# Altium footprint library Footprints.PcbLib: 13 footprints
Each footprint in its own frame and in the unit in brackets; x right, y up, seen from the top. Pads: shape width x height; smd on the part's side, far side on the other; paste and mask are expansions set on the pad; w line width, h text height; cw(c..) or ccw(c..) is an arc to the next point about the centre after c.
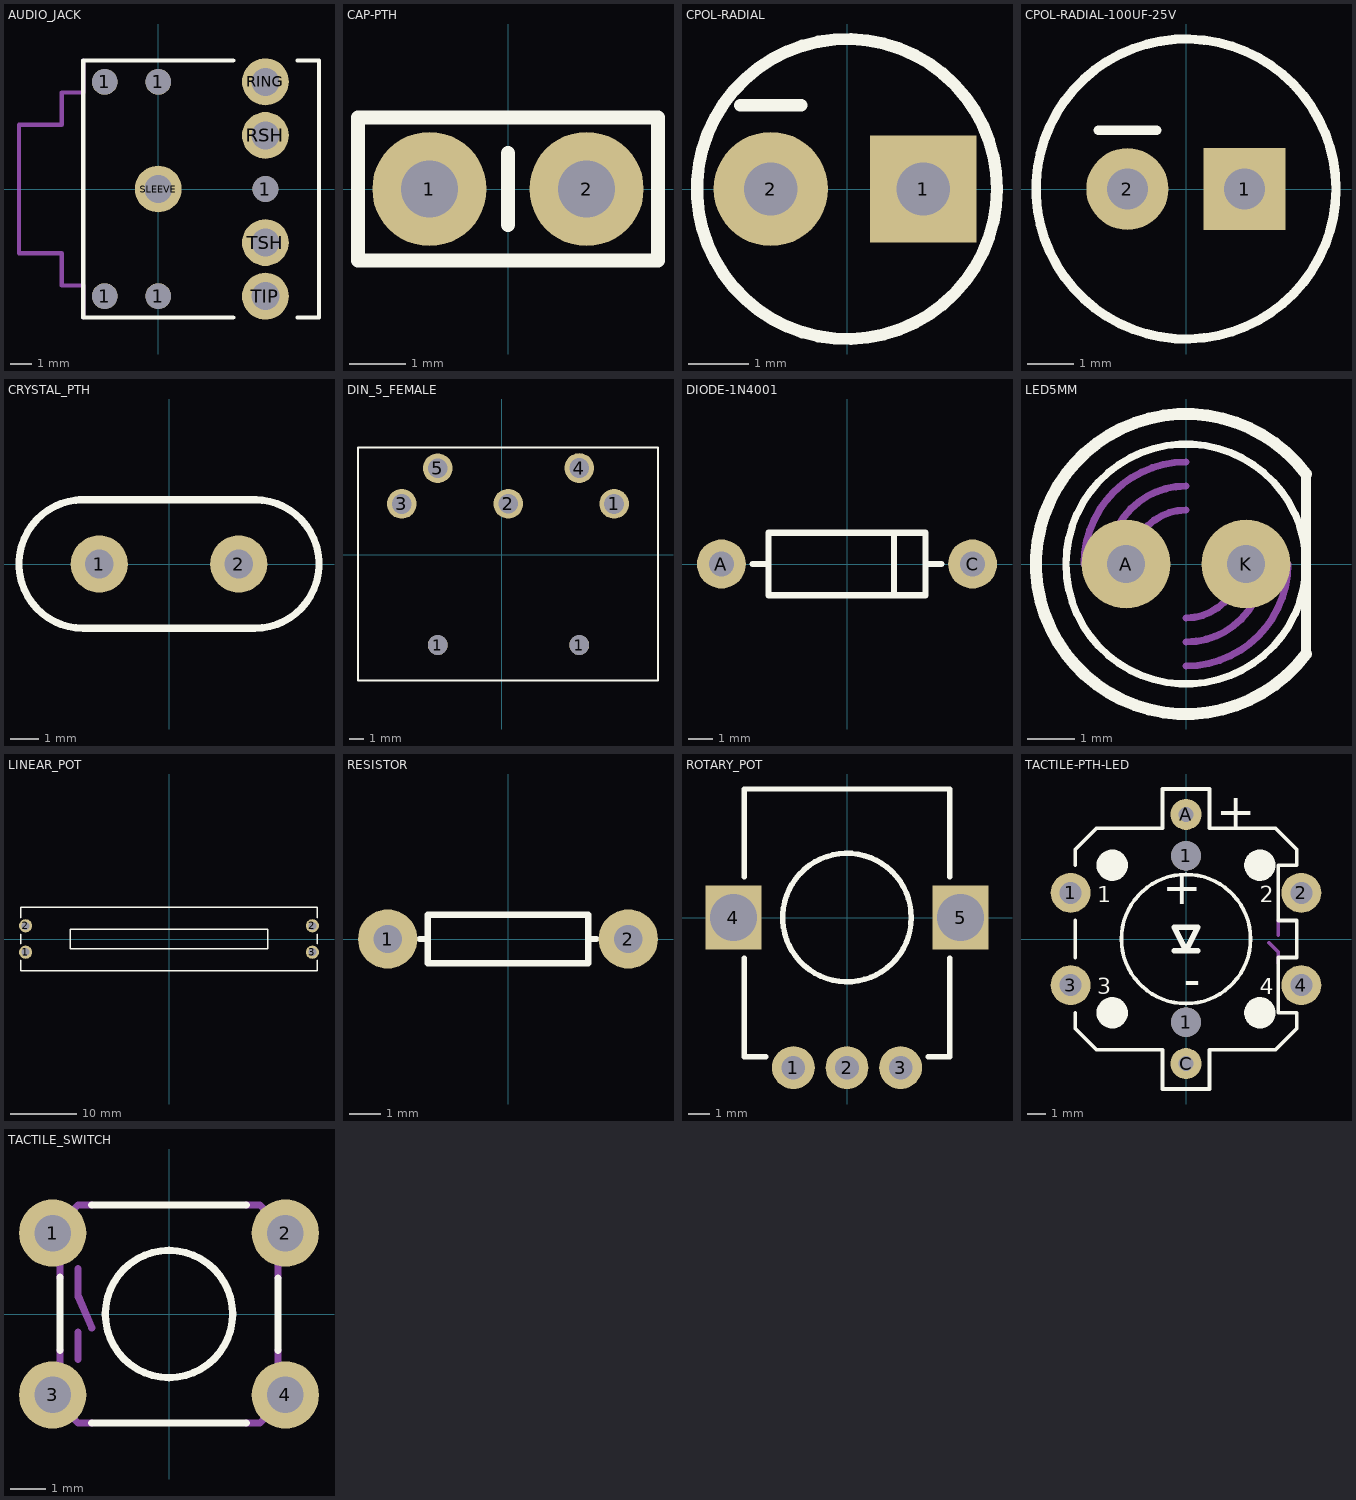
[diagram p0: the footprints below, top view; thin cyan lines are the x and y axes]

## AUDIO_JACK [mm]
pads (10):
  round 1.2 hole 1.2: 1(-2.5,-5) 1(-2.5,5) 1(0,-5) 1(0,5) 1(5,0)
  round 2.184 hole 1.3: RING(5,5) RSH(5,2.5) SLEEVE(0,0) TIP(5,-5) TSH(5,-2.5)
Top Overlay:
  lines w0.203: 3.5,-6 -3.5,-6 -3.5,6 3.5,6 ; 6.5,-6 7.5,-6 7.5,6 6.5,6
Mechanical 16:
  lines w0.203: -3.5,-6 -3.5,-4.5 -4.5,-4.5 -4.5,-3 -6.5,-3 -6.5,3 -4.5,3 -4.5,4.5 -3.5,4.5 -3.5,6
3D body "sj1-3525n.stp": height 5.5, standoff -3.3, extent -6.5,-6 7.5,6

## CAP-PTH [mil]
pads (2):
  round 80 hole 40: 1(-55,0) 2(55,0)
Top Overlay:
  lines w10: 0,-25 0,25 ; -105,-50 -105,50 105,50 105,-50 -105,-50
Top Solder:
  region: 54.9,-17.3 51.5,-17.38 45.15,-14.92 40.23,-10.23 37.48,-4 37.4,-0.6 37.31,2.97 39.88,9.64 44.8,14.81 51.33,17.71 54.9,17.8 58.42,17.74 64.88,14.94 69.78,9.87 72.36,3.32 72.3,-0.2 72.27,-3.63 69.59,-9.95 64.69,-14.76 58.33,-17.33
  region: -55.3,-17.3 -58.7,-17.38 -65.05,-14.92 -69.97,-10.23 -72.72,-4 -72.8,-0.6 -72.89,2.97 -70.32,9.64 -65.4,14.81 -58.87,17.71 -55.3,17.8 -51.78,17.74 -45.32,14.94 -40.42,9.87 -37.84,3.32 -37.9,-0.2 -37.93,-3.63 -40.61,-9.95 -45.51,-14.76 -51.87,-17.33
Bottom Solder:
  region: 55,-37.3 51.35,-37.35 44.16,-36.02 37.37,-33.31 31.24,-29.33 26.01,-24.24 21.87,-18.21 18.98,-11.5 17.46,-4.35 17.41,-0.7 17.36,3.04 18.73,10.39 21.51,17.33 25.59,23.59 30.81,28.94 36.98,33.17 43.85,36.11 51.16,37.66 54.9,37.7 58.64,37.65 65.95,36.08 72.81,33.12 78.97,28.88 84.18,23.51 88.24,17.24 91,10.29 92.35,2.94 92.3,-0.8 92.26,-4.43 90.77,-11.55 87.91,-18.23 83.81,-24.24 78.61,-29.32 72.53,-33.29 65.78,-36 58.63,-37.34
  region: -55.2,-37.3 -58.85,-37.35 -66.04,-36.02 -72.83,-33.31 -78.96,-29.34 -84.2,-24.24 -88.34,-18.22 -91.23,-11.5 -92.75,-4.35 -92.8,-0.7 -92.84,3.04 -91.47,10.39 -88.7,17.33 -84.62,23.59 -79.39,28.94 -73.23,33.17 -66.35,36.11 -59.04,37.66 -55.3,37.7 -51.56,37.65 -44.25,36.08 -37.39,33.12 -31.23,28.88 -26.02,23.51 -21.96,17.24 -19.2,10.29 -17.85,2.94 -17.9,-0.8 -17.94,-4.43 -19.43,-11.55 -22.29,-18.23 -26.39,-24.24 -31.59,-29.32 -37.67,-33.29 -44.42,-36 -51.57,-37.34

## CPOL-RADIAL [mil]
pads (2):
  rect 70x70 hole 35: 1(50,0)
  round 75 hole 35: 2(-50,0)
Top Overlay:
  circle w8: c0,0 r98.43
  lines w8: -70,55 -30,55

## CPOL-RADIAL-100UF-25V [mil]
pads (2):
  rect 70x70 hole 35: 1(50,0)
  round 70 hole 35: 2(-50,0)
Top Overlay:
  circle w8: c0,0 r127.95
  lines w8: -75,50 -25,50

## CRYSTAL_PTH [mm]
pads (2):
  round 2 hole 1 mask+0: 1(-2.44,0) 2(2.44,0)
Top Overlay:
  lines w0.254: -3.15,2.25 3.05,2.25 ; -3,2.25 ccw(c-3,0) -3,-2.25 -0.75,-2.25 2.95,-2.25 ; 3,-2.25 ccw(c3,0) 3,2.25

## DIN_5_FEMALE [mm]
pads (7):
  round 1.4 hole 1.4: 1(-4.52,-6.38) 1(5.47,-6.38)
  round 2.1 hole 1.4: 1(7.94,3.6) 2(0.46,3.61) 3(-7.07,3.6) 4(5.47,6.13) 5(-4.53,6.12)
Top Overlay:
  lines w0.127: -10.16,-8.89 11.04,-8.89 11.04,7.59 -10.16,7.59 -10.16,-8.89
Mechanical 16:
  lines w0.09: 0.44,3.6 0.46,3.6

## DIODE-1N4001 [mil]
pads (2):
  round 78 hole 40: A(-200,0) C(200,0)
Top Overlay:
  lines w10: -150,0 -125,0 ; 150,0 125,0 ; -125,0 -125,50 75,50 ; -125,0 -125,-50 75,-50 ; 75,-50 125,-50 125,0 ; 75,-50 75,50 ; 75,50 125,50 125,0

## LED5MM [mil]
pads (2):
  round 74 hole 32: A(-50,0) K(50,0)
Top Overlay:
  circle w6: c0,0 r100
  lines w8: 100,-75 100,75
  lines w10: 100,-75 cw(c0,0) 100,75
Mechanical 16:
  lines w6: -85,0 cw(c0,0) 0,85 ; -65,0 cw(c0,0) 0,65 ; -45,0 cw(c0,0) 0,45 ; 0,-85 ccw(c0,0) 85,0 ; 0,-65 ccw(c0,0) 65,0 ; 0,-45 ccw(c0,0) 45,0

## LINEAR_POT [mm]
pads (4):
  round 2 hole 1.2 mask+0: 1(-21.75,-2) 2(-21.75,2) 2(21.75,2) 3(21.75,-2)
Top Overlay:
  lines w0.254: -22.5,-3.2 -22.5,-4.8 -11.4,-4.8 11.4,-4.8 22.5,-4.8 22.5,-3.2 ; -22.5,-0.7 -22.5,0.7 ; -22.5,3.2 -22.5,4.8 -9.5,4.8 9.5,4.8 22.5,4.8 22.5,3.2 ; 22.5,-0.7 22.5,0.7 ; -15,-1.5 -15,1.5 15,1.5 15,-1.5 -15,-1.5

## RESISTOR [mil]
pads (2):
  round 74 hole 35.43: 1(-150,0) 2(150,0)
Top Overlay:
  lines w8: -110,0 -100,0 ; 110,0 100,0 ; -100,0 -100,-30 100,-30 100,0 ; -100,0 -100,30 100,30 100,0

## ROTARY_POT [mm]
pads (5):
  round 2 hole 1.1 mask+0: 1(-2.5,-7) 2(0,-7) 3(2.5,-7)
  rect 2.6x3 hole 2.2 mask+0: 4(-5.3,0) 5(5.3,0)
Top Overlay:
  circle w0.254: c0,0 r3
  lines w0.254: -4.8,-1.9 -4.8,-6.5 -3.8,-6.5 ; -4.8,1.9 -4.8,6 4.8,6 4.8,1.9 ; 3.8,-6.5 4.8,-6.5 4.8,-1.9

## TACTILE-PTH-LED [mil]
pads (8):
  round 85 hole 47.24: 1(-246.06,98.43) 2(246.06,98.43) 3(-246.06,-98.43) 4(246.06,-98.43)
  round 62.99 hole 62.99: 1(0,-177.17) 1(0,177.17)
  round 66 hole 31.5: A(0,265.75) C(0,-265.75)
Top Overlay:
  circle w35.43: c-157.48,-157.48 r15.75
  circle w35.43: c157.48,-157.48 r15.75
  circle w35.43: c157.48,157.48 r15.75
  circle w35.43: c-157.48,157.48 r15.75
  circle w8: c0,0 r137.8
  lines w8: -236.22,-157.48 -236.22,-190.94 -190.94,-236.22 -50,-236.22 -50,-320 50,-320 50,-236.22 190.94,-236.22 236.22,-190.94 236.22,-157.48 196.85,-157.48 196.85,-39.37 236.22,-39.37 236.22,39.37 196.85,39.37 196.85,157.48 236.22,157.48 236.22,190.94 190.94,236.22 50,236.22 50,320 -50,320 -50,236.22 -190.94,236.22 -236.22,190.94 -236.22,157.48 ; -236.22,-39.37 -236.22,39.37
  lines w12: -25,-25 0,-25 ; 25,-25 0,-25 ; 0,-25 25,25 -25,25 0,-25
  text "+" at 64.67,236.02 h73.1
  text "-" at 31.75,-66.75 h73.1
  text "+" at 33.75,138 h73.1
  text "4" at 157.48,-118.11 h34
  text "3" at -188.98,-118.11 h34
  text "2" at 157.48,78.74 h34
  text "1" at -188.98,78.74 h34
Top Solder:
  region: 246.1,77.5 250.3,77.58 257.99,80.94 263.81,86.99 266.88,94.8 266.8,99 266.74,103.06 263.52,110.51 257.7,116.16 250.16,119.16 246.1,119.1 241.87,119.01 234.13,115.61 228.28,109.51 225.21,101.63 225.3,97.4 225.39,93.35 228.65,85.94 234.5,80.34 242.05,77.41
  region: 246.3,-119.3 250.5,-119.22 258.19,-115.86 264.01,-109.81 267.08,-102 267,-97.8 266.94,-93.74 263.72,-86.29 257.9,-80.64 250.36,-77.64 246.3,-77.7 242.07,-77.79 234.33,-81.19 228.48,-87.29 225.41,-95.17 225.5,-99.4 225.59,-103.45 228.85,-110.86 234.7,-116.46 242.25,-119.39
  region: -246.1,77.4 -241.9,77.48 -234.21,80.84 -228.39,86.89 -225.32,94.7 -225.4,98.9 -225.46,102.96 -228.68,110.41 -234.5,116.06 -242.04,119.06 -246.1,119 -250.33,118.91 -258.07,115.51 -263.92,109.41 -266.99,101.53 -266.9,97.3 -266.81,93.25 -263.55,85.84 -257.7,80.24 -250.15,77.31
  region: -246.2,-119.1 -242,-119.02 -234.31,-115.66 -228.49,-109.61 -225.42,-101.8 -225.5,-97.6 -225.56,-93.54 -228.78,-86.09 -234.6,-80.44 -242.14,-77.44 -246.2,-77.5 -250.43,-77.59 -258.17,-80.99 -264.02,-87.09 -267.09,-94.97 -267,-99.2 -266.91,-103.25 -263.65,-110.66 -257.8,-116.26 -250.25,-119.19
  region: 0,-278.7 2.59,-278.7 7.36,-276.72 11.02,-273.06 13,-268.29 13,-265.7 13,-263.11 11.02,-258.34 7.36,-254.68 2.59,-252.7 0,-252.7 -2.69,-252.8 -7.57,-255.04 -11.23,-258.98 -13.1,-264.01 -13,-266.7 -12.9,-269.19 -10.81,-273.7 -7.16,-277.08 -2.49,-278.8
  region: 0,253 2.59,253 7.36,254.98 11.02,258.64 13,263.41 13,266 13,268.59 11.02,273.36 7.36,277.02 2.59,279 0,279 -2.69,278.9 -7.57,276.66 -11.23,272.72 -13.1,267.69 -13,265 -12.9,262.51 -10.81,258 -7.16,254.62 -2.49,252.9
Bottom Solder:
  drawing of 6 lines, arcs and shapes, not listed
Mechanical 16:
  lines w8: 177.17,-7.87 196.85,-27.56 196.85,-51.18 ; 196.85,7.87 196.85,39.37

## TACTILE_SWITCH [mil]
pads (4):
  round 74 hole 40: 1(-128,89) 2(128,89) 3(-128,-89) 4(128,-89)
Top Overlay:
  circle w8: c0,0 r70
  lines w8: -120,-40 -120,40.47 ; -85,-120 85,-120 ; -85,120 85,120 ; 120,-40 120,39.29
Mechanical 16:
  lines w8: -120,-40 -120,-100 -100,-120 -85,-120 ; -120,40 -120,100 -100,120 -85,120 ; -100,-50 -100,-20 ; -100,50 -100,20 -85,-15 ; 85,-120 100,-120 120,-100 120,-40 ; 85,120 100,120 120,100 120,40